# EAGLE library part W25Q32JVSSIQ (library W25Q32JVSSIQ)
NOR Flash Serial-SPI 3V/3.3V 32M-bit 4M x 8 8.5ns 8-Pin SOIC Check availability <https://pricing.snapeda.com/parts/W25Q32JVSSIQ/Winbond/view-part?ref=eda>
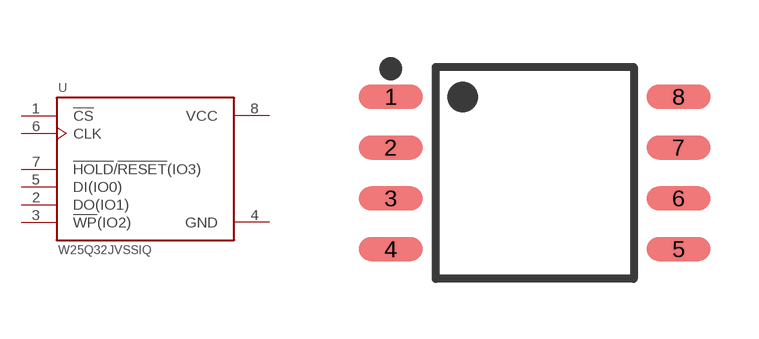
[diagram p0: symbol with the pads of SOIC127P790X216-8N; footprint SOIC127P790X216-8N]

Designator prefix U

## W25Q32JVSSIQ (AVAILABILITY: In Stock; CHECK_PRICES: https://www.snapeda.com/parts/W25Q32JVSSIQ/Winbond+Electronics/view-part/?ref=eda; DESCRIPTION: FLASH - NOR Memory IC 32Mb (4M x 8) SPI - Quad I/O 133 MHz 8-SOIC; MF: Winbond; MP: W25Q32JVSSIQ; PACKAGE: SOIC-8 Winbond; PRICE: None; PURCHASE-URL: https://www.snapeda.com/api/url_track_click_mouser/?unipart_id=596953&manufacturer=Winbond&part_name=W25Q32JVSSIQ&search_term=w25q32jv; SNAPEDA_LINK: https://www.snapeda.com/parts/W25Q32JVSSIQ/Winbond+Electronics/view-part/?ref=snap)  [SOIC127P790X216-8N]
1  !CS  in
2  DO(IO1)
3  !WP!(IO2)
4  GND  pwr
5  DI(IO0)
6  CLK  in
7  !HOLD!/!RESET!(IO3)
8  VCC  pwr

## Footprint SOIC127P790X216-8N (pad centres in mm)
smd 1.6 x 0.6: 1 -3.6,1.905; 2 -3.6,0.635; 3 -3.6,-0.635; 4 -3.6,-1.905; 5 3.6,-1.905; 6 3.6,-0.635; 7 3.6,0.635; 8 3.6,1.905